# Altium schematic symbol library VOLTAGE_REG(1.8-5.5V, BUCK_BST, 3.3V, 3.5A, 14VSON).SchLib: 1 symbol
Pins are listed as number, name and electrical type; pins without a type are passive.

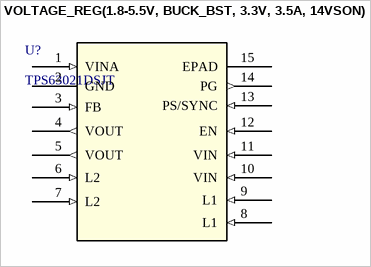
[diagram p0: symbol VOLTAGE_REG(1.8-5.5V, BUCK_BST, 3.3V, 3.5A, 14VSON)]

## VOLTAGE_REG(1.8-5.5V, BUCK_BST, 3.3V, 3.5A, 14VSON)
designator U?, comment TPS63021DSJT
High Efficiency Single Inductor Buck-Boost Converter with 4A Switch 14-VSON -40 to 125; Manufacturer: Texas Instruments; Manufacturer_PN: TPS63021DSJT; Package: 14-VSON; Datasheet: https://www.ti.com/lit/ds/symlink/tps63021.pdf?HQS=dis-dk-null-digikeymode-dsf-pf-null-wwe&ts=1765710742925&ref_url=https%253A%252F%252Fwww.ti.com%252Fgeneral%252Fdocs%252Fsuppproductinfo.tsp%253FdistId%253D10%2526gotoUrl%253Dhttps%253A%252F%252Fwww.ti.com%252Flit%252Fgpn%252Ftps63021; Digikey_Link: https://www.digikey.it/en/products/detail/texas-instruments/TPS63021DSJT/2353762?s=N4IgTCBcDaICoAUDKA2AzABjARgCJICk4QBdAXyA
footprint DSJ14_2P85X1P58
pins: 1 VINA (in), 2 GND (power), 3 FB (in), 4 VOUT (out), 5 VOUT (out), 6 L2 (in), 7 L2 (in), 8 L1 (in), 9 L1 (in), 10 VIN (in), 11 VIN (in), 12 EN (in), 13 PS/SYNC (in), 14 PG (out), 15 EPAD